# Altium footprint library BMS.Pcb.lib.PcbLib: 38 footprints (part 1 of 3)
Each footprint in its own frame and in the unit in brackets; x right, y up, seen from the top. Pads: shape width x height; smd on the part's side, far side on the other; paste and mask are expansions set on the pad; w line width, h text height; cw(c..) or ccw(c..) is an arc to the next point about the centre after c.
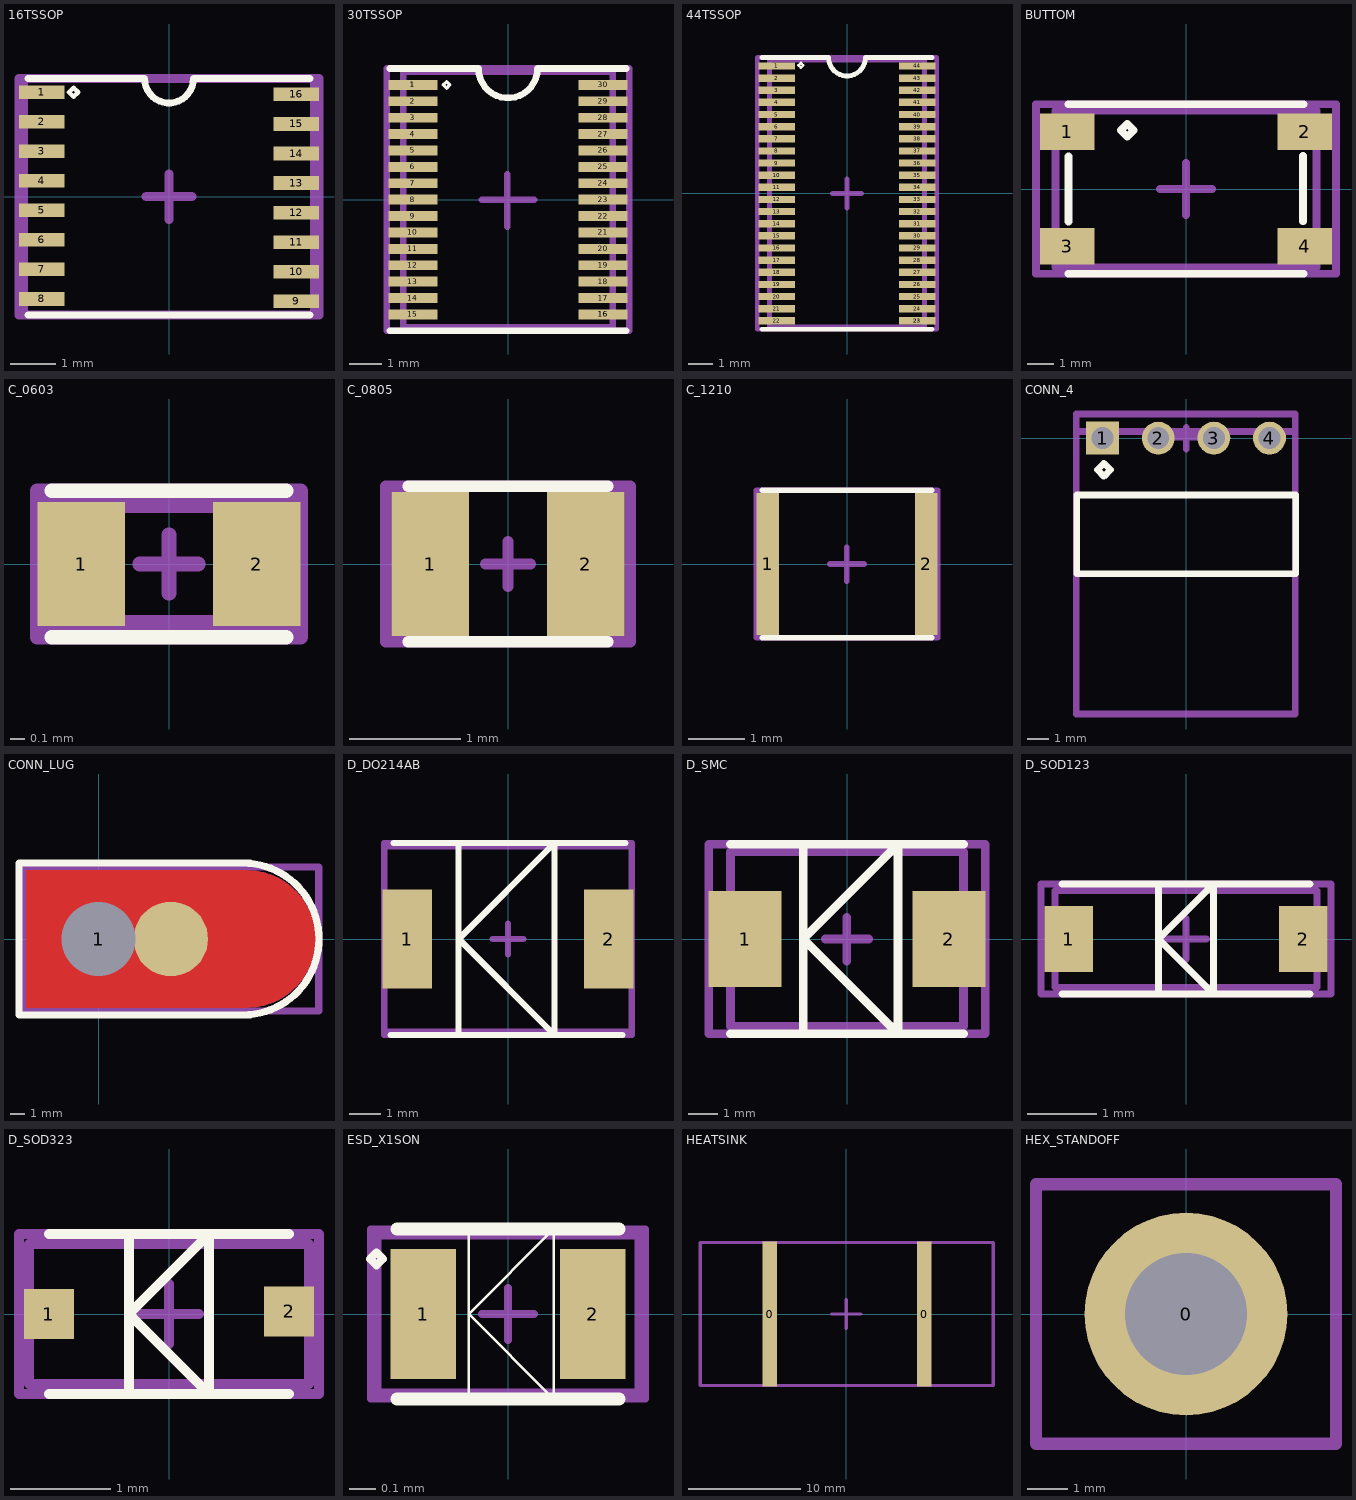
[diagram p0: the footprints below, top view; thin cyan lines are the x and y axes]

## 16TSSOP [mm]
pads (16):
  rect 1x0.3 smd mask+0.005: 1(-2.8,2.3) 2(-2.8,1.65) 3(-2.8,1) 4(-2.8,0.35) 5(-2.8,-0.3) 6(-2.8,-0.95) 7(-2.8,-1.6) 8(-2.8,-2.25) 9(2.8,-2.3) 10(2.8,-1.65) 11(2.8,-1) 12(2.8,-0.35) 13(2.8,0.3) 14(2.8,0.95) 15(2.8,1.6) 16(2.8,2.25)
Top Overlay:
  lines w0.1: -2.2,2.3 -2.1,2.2 -2,2.3 -2.1,2.4 -2.2,2.3
  lines w0.15: -3.1,-2.6 3.1,-2.6 ; -3.1,2.6 -0.539,2.6 ccw(c0,2.6) 0.539,2.6 3.1,2.6
Top Designator:
  lines w0.2: -3.3,-2.6 -3.3,2.6 3.3,2.6 3.3,-2.6 -3.3,-2.6
  text ".Designator" at -3.646,3.487 h1
Top Component Center:
  lines w0.2: -0.5,0 0.5,0 ; 0,-0.5 0,0.5 ; -3.3,-2.6 -3.3,2.6 3.3,2.6 3.3,-2.6 -3.3,-2.6
Top 3D Body:
  lines w0.2: -3.2,-2.6 3.2,-2.6 3.2,2.6 -3.2,2.6 -3.2,-2.6
3D body "16TSSOP.stp": height 1.13, standoff 0, extent -3.183,-2.501 3.217,2.499

## 30TSSOP [mm]
pads (32):
  rect 1.5x0.3 smd mask+0.005: 1(-2.9,3.5) 1(-2.9,3.5) 2(-2.9,3) 3(-2.9,2.5) 4(-2.9,2) 5(-2.9,1.5) 6(-2.9,1) 7(-2.9,0.5) 8(-2.9,0) 9(-2.9,-0.5) 10(-2.9,-1) 11(-2.9,-1.5) 12(-2.9,-2) 13(-2.9,-2.5) 14(-2.9,-3) 15(-2.9,-3.5) 16(2.9,-3.5) 16(2.9,-3.5) 17(2.9,-3) 18(2.9,-2.5) 19(2.9,-2) 20(2.9,-1.5) 21(2.9,-1) 22(2.9,-0.5) 23(2.9,0) 24(2.9,0.5) 25(2.9,1) 26(2.9,1.5) 27(2.9,2) 28(2.9,2.5) 29(2.9,3) 30(2.9,3.5)
Top Overlay:
  lines w0.1: -1.975,3.5 -1.875,3.4 -1.775,3.5 -1.875,3.6 -1.975,3.5
  lines w0.2: -3.6,-4 3.6,-4 ; -3.6,4 -0.9,4 ccw(c0,4) 0.9,4 3.6,4
Top Designator:
  lines w0.2: -3.7,-4 -3.7,4 3.7,4 3.7,-4 -3.7,-4
  text ".Designator" at -4.346,4.987 h1
Top Component Center:
  lines w0.2: -0.8,0 0.8,0 ; -0.028,-0.82 -0.028,0.78 ; -3.7,-4 -3.7,4 3.7,4 3.7,-4 -3.7,-4
Top 3D Body:
  lines w0.2: -3.2,-3.9 -3.2,3.9 3.2,3.9 3.2,-3.9 -3.2,-3.9
3D body "30TSSOP.step": height 1.2, standoff 0, extent -3.2,-3.9 3.2,3.9

## 44TSSOP [mm]
pads (45):
  rect 1.5x0.3 smd mask+0.005: 1(-2.9,5.25) 2(-2.9,4.75) 3(-2.9,4.25) 4(-2.9,3.75) 5(-2.9,3.25) 6(-2.9,2.75) 7(-2.9,2.25) 8(-2.9,1.75) 9(-2.9,1.25) 10(-2.9,0.75) 11(-2.9,0.25) 12(-2.9,-0.25) 13(-2.9,-0.75) 14(-2.9,-1.25) 15(-2.9,-1.75) 16(-2.9,-2.25) 17(-2.9,-2.75) 18(-2.9,-3.25) 19(-2.9,-3.75) 20(-2.9,-4.25) 21(-2.9,-4.75) 22(-2.9,-5.25) 23(2.9,-5.25) 23(2.9,-5.25) 24(2.9,-4.75) 25(2.9,-4.25) 26(2.9,-3.75) 27(2.9,-3.25) 28(2.9,-2.75) 29(2.9,-2.25) 30(2.9,-1.75) 31(2.9,-1.25) 32(2.9,-0.75) 33(2.9,-0.25) 34(2.9,0.25) 35(2.9,0.75) 36(2.9,1.25) 37(2.9,1.75) 38(2.9,2.25) 39(2.9,2.75) 40(2.9,3.25) 41(2.9,3.75) 42(2.9,4.25) 43(2.9,4.75) 44(2.9,5.25)
Top Overlay:
  lines w0.1: -2,5.275 -1.9,5.375 -1.8,5.275 -1.9,5.175 -2,5.275
  lines w0.2: -3.5,-5.6 3.5,-5.6 ; -3.5,5.6 -0.762,5.6 ccw(c0,5.6) 0.762,5.6 3.5,5.6
Top Designator:
  lines w0.2: -3.7,-5.6 3.7,-5.6 3.7,5.6 -3.7,5.6 -3.7,-5.6
  text ".Designator" at -4.746,6.287 h1
Top Component Center:
  lines w0.2: -0.6,0 0.6,0 ; 0,-0.6 0,0.6 ; -3.7,-5.6 -3.7,5.6 3.7,5.6 3.7,-5.6 -3.7,-5.6
Top 3D Body:
  lines w0.2: -3.2,-5.5 -3.2,5.5 3.2,5.5 3.2,-5.5 -3.2,-5.5
3D body "44TSSOP.stp": height 1.13, standoff 0, extent -3.2,-5.5 3.2,5.5

## BUTTOM [mm]
pads (4):
  rect 2.1x1.4 smd mask+0.005: 1(-4.55,2.2) 2(4.55,2.2) 3(-4.55,-2.2) 4(4.55,-2.2)
Top Overlay:
  lines w0.3: -4.5,-3.25 4.5,-3.25 ; -4.5,-1.25 -4.5,1.25 ; -4.5,3.25 4.5,3.25 ; 4.49,-1.233 4.49,1.267 ; -2.5,2.25 -2.25,2 -2,2.25 -2.25,2.5 -2.5,2.25
Top Designator:
  lines w0.3: -5.75,-3.25 5.75,-3.25 5.75,3.25 -5.75,3.25 -5.75,-3.25
  text ".Designator" at -5.246,4.337 h1
Top Component Center:
  lines w0.3: -1,0 1,0 ; 0,-1 0,1 ; -5,-3 5,-3 5,3 -5,3 -5,-3
Top 3D Body:
  lines w0.3: -5,-3 5,-3 5,3 -5,3 -5,-3
3D body "BUTTOM.stp": height 4.41, standoff 0, extent -5,-3 5,3

## C_0603 [mm]
pads (2):
  rect 0.6x0.85 smd mask+0.005: 1(-0.6,0) 2(0.6,0)
Top Overlay:
  lines w0.1: -0.8,-0.5 0.8,-0.5 ; -0.8,0.5 0.8,0.5
Top Designator:
  lines w0.1: -0.9,-0.5 -0.9,0.5 0.9,0.5 0.9,-0.5 -0.9,-0.5
  text ".Designator" at -1.146,0.787 h1
Top Component Center:
  lines w0.1: -0.2,0 0.2,0 ; 0,-0.2 0,0.2 ; -0.9,-0.4 0.9,-0.4 0.9,0.4 -0.9,0.4 -0.9,-0.4
Top 3D Body:
  lines w0.1: -0.8,-0.4 0.8,-0.4 0.8,0.4 -0.8,0.4 -0.8,-0.4
3D body "C_0603.step": height 0.8, standoff 0, extent -0.8,-0.4 0.8,0.4

## C_0805 [mm]
pads (2):
  rect 0.7x1.3 smd mask+0.005: 1(-0.7,0) 2(0.7,0)
Top Overlay:
  lines w0.1: -0.9,-0.7 0.9,-0.7 ; -0.9,0.7 0.9,0.7
Top Designator:
  lines w0.1: -1.1,-0.7 1.1,-0.7 1.1,0.7 -1.1,0.7 -1.1,-0.7
  text ".Designator" at -2,0.933 h0.4
Top Component Center:
  lines w0.1: -0.2,0 0.2,0 ; 0,-0.2 0,0.2 ; -1.1,-0.7 1.1,-0.7 1.1,0.7 -1.1,0.7 -1.1,-0.7
Top 3D Body:
  lines w0.1: -1.1,-0.7 1.1,-0.7 1.1,0.7 -1.1,0.7 -1.1,-0.7
3D body "C_0805.STEP": height 0.94, standoff 0, extent -1.005,-0.625 1.005,0.625

## C_1210 [mm]
pads (2):
  rect 0.4x2.5 smd mask+0.005: 1(-1.4,0) 2(1.4,0)
Top Overlay:
  lines w0.1: -1.5,-1.3 1.5,-1.3 ; -1.5,1.3 1.5,1.3
Top Designator:
  lines w0.1: -1.6,-1.3 1.6,-1.3 1.6,1.3 -1.6,1.3 -1.6,-1.3
  text ".Designator" at -2.946,1.687 h1
Top Component Center:
  lines w0.1: -0.3,0 0.3,0 ; -0.007,-0.306 -0.007,0.294 ; -1.6,-1.3 1.6,-1.3 1.6,1.3 -1.6,1.3 -1.6,-1.3
Top 3D Body:
  lines w0.1: -1.6,-1.3 1.6,-1.3 1.6,1.3 -1.6,1.3 -1.6,-1.3
3D body "C_1210.step": height 2.2, standoff 0, extent -1.6,-1.25 1.6,1.25

## CONN_4 [mm]
pads (4):
  rect 1.5x1.5 hole 1 mask+0.005: 1(-3.81,0)
  round 1.5 hole 1 mask+0.005: 2(-1.27,0) 3(1.27,0) 4(3.81,0)
Top Overlay:
  lines w0.3: -5,-6.2 -5,-2.6 5,-2.6 5,-6.2 -5,-6.2 ; -4.05,-1.45 -3.75,-1.75 -3.45,-1.45 -3.75,-1.15 -4.05,-1.45
Top Designator:
  lines w0.3: -5.005,-12.6 4.995,-12.6 4.995,1.1 -5.005,1.1 -5.005,-12.6
  text ".Designator" at -5.346,-14.713 h1
Top Component Center:
  lines w0.3: -0.49,0.03 0.51,0.03 ; 0,-0.5 0,0.5 ; -5.005,-12.6 -5.005,1.1 4.995,1.1 4.995,-12.6 -5.005,-12.6
Top 3D Body:
  lines w0.3: -5.005,-12.6 4.995,-12.6 4.995,0.3 -5.005,0.3 -5.005,-12.6
3D body "CONN_4.stp": height 7.17, standoff -2.76, extent -5.005,-12.629 5.003,0.3

## CONN_LUG [mm]
pads (1):
  round 5.15 hole 5.125 copper offset 5,0 mask+0.005: 1(0,0)
Top Layer:
  region: 10.25,-4.75 -5,-4.75 -5,4.75 10.25,4.75 10.383,4.75 10.649,4.735 10.914,4.705 11.177,4.661 11.437,4.601 11.693,4.527 11.945,4.439 12.191,4.337 12.431,4.222 12.664,4.093 12.89,3.951 13.107,3.797 13.316,3.631 13.515,3.453 13.703,3.265 13.881,3.066 14.047,2.857 14.201,2.64 14.343,2.414 14.472,2.181 14.587,1.941 14.689,1.695 14.777,1.443 14.851,1.187 14.911,0.927 14.955,0.664 14.985,0.399 15,0.133 15,0 15,-0.133 14.985,-0.399 14.955,-0.664 14.911,-0.927 14.851,-1.187 14.777,-1.443 14.689,-1.695 14.587,-1.941 14.472,-2.181 14.343,-2.414 14.201,-2.64 14.047,-2.857 13.881,-3.066 13.703,-3.265 13.515,-3.453 13.316,-3.631 13.107,-3.797 12.89,-3.951 12.664,-4.093 12.431,-4.222 12.191,-4.337 11.945,-4.439 11.693,-4.527 11.437,-4.601 11.177,-4.661 10.914,-4.705 10.649,-4.735 10.383,-4.75
Bottom Layer:
  region: 10.25,-4.75 -5,-4.75 -5,4.75 10.25,4.75 10.383,4.75 10.649,4.735 10.914,4.705 11.177,4.661 11.437,4.601 11.693,4.527 11.945,4.439 12.191,4.337 12.431,4.222 12.664,4.093 12.89,3.951 13.107,3.797 13.316,3.631 13.515,3.453 13.703,3.265 13.881,3.066 14.047,2.857 14.201,2.64 14.343,2.414 14.472,2.181 14.587,1.941 14.689,1.695 14.777,1.443 14.851,1.187 14.911,0.927 14.955,0.664 14.985,0.399 15,0.133 15,0 15,-0.133 14.985,-0.399 14.955,-0.664 14.911,-0.927 14.851,-1.187 14.777,-1.443 14.689,-1.695 14.587,-1.941 14.472,-2.181 14.343,-2.414 14.201,-2.64 14.047,-2.857 13.881,-3.066 13.703,-3.265 13.515,-3.453 13.316,-3.631 13.107,-3.797 12.89,-3.951 12.664,-4.093 12.431,-4.222 12.191,-4.337 11.945,-4.439 11.693,-4.527 11.437,-4.601 11.177,-4.661 10.914,-4.705 10.649,-4.735 10.383,-4.75
Top Overlay:
  lines w0.5: 10,-5.25 ccw(c10,0) 10,5.25 ; 10.5,-5.25 -5.5,-5.25 -5.5,5.25 10.5,5.25
Top Designator:
  lines w0.5: -5.25,-4.975 -5.25,4.975 15.225,4.975 15.225,-4.975 -5.25,-4.975
  text ".Designator" at -0.496,6.337 h1
Top Component Center:
  lines w0.5: -2,0 2,0 ; 0,-2 0,2 ; -5.25,-4.975 -5.25,4.975 15.225,4.975 15.225,-4.975 -5.25,-4.975
Top 3D Body:
  lines w0.5: -5.25,-4.975 15.225,-4.975 15.225,4.975 -5.25,4.975 -5.25,-4.975
3D body: height 2, standoff 0, extent -5,-4.75 15,4.75
3D body: height 2.01, standoff -0.01, extent -2.54,-2.54 2.54,2.54
3D body: height 13, standoff 0, extent 5.55,-4.75 15.05,4.75
3D body: height 13.05, standoff 0, extent 6.8,-3.5 13.8,3.5

## D_DO214AB [mm]
pads (2):
  rect 1.6x3.2 smd mask+0.005: 1(-3.25,0) 2(3.25,0)
Top Overlay:
  lines w0.2: -3.8,-3.1 3.7,-3.1 ; -3.7,3.1 3.8,3.1 ; -1.6,-3.1 -1.6,3.1 ; -1.6,0 1.5,3.1 1.5,-3.1 -1.6,0
Top Designator:
  lines w0.2: -4,-3.1 4,-3.1 4,3.1 -4,3.1 -4,-3.1
  text ".Designator" at -4.846,3.987 h1
Top Component Center:
  lines w0.2: -0.5,0 0.5,0 ; 0,-0.5 0,0.5 ; -4,-3.1 4,-3.1 4,3.1 -4,3.1 -4,-3.1
Top 3D Body:
  lines w0.2: -4,-3 4,-3 4,3 -4,3 -4,-3
3D body "D_DO214AB.STEP": height 2.65, standoff 0, extent -3.975,-2.95 3.975,2.95

## D_SMC [mm]
pads (2):
  rect 2.5x3.3 smd mask+0.005: 1(-3.5,0) 2(3.5,0)
Top Overlay:
  lines w0.3: -4,-3.25 4,-3.25 ; -4,3.25 4,3.25 ; -1.5,-3.25 -1.5,3.25 ; -1.5,0 1.75,3.25 1.75,-3.25 -1.5,0
Top Designator:
  lines w0.3: -4.75,-3.25 -4.75,3.25 4.75,3.25 4.75,-3.25 -4.75,-3.25
  text ".Designator" at -4.846,3.987 h1
Top Component Center:
  lines w0.3: -0.75,0 0.75,0 ; -0.006,-0.764 -0.006,0.736 ; -4.75,-3.25 -4.75,3.25 4.75,3.25 4.75,-3.25 -4.75,-3.25
Top 3D Body:
  lines w0.3: -4,-3 -4,3 4,3 4,-3 -4,-3
3D body "D_SMC.step": height 2.62, standoff 0, extent -3.97,-2.953 3.97,2.953

## D_SOD123 [mm]
pads (2):
  rect 0.7x0.95 smd mask+0.005: 1(-1.7,0) 2(1.7,0)
Top Overlay:
  lines w0.1: -1.8,-0.8 1.8,-0.8 ; -1.8,0.8 1.8,0.8 ; -0.4,-0.8 -0.4,0.8 ; -0.4,0 0.4,-0.8 0.4,0.8 -0.4,0
Top Designator:
  lines w0.1: -2.1,-0.8 2.1,-0.8 2.1,0.8 -2.1,0.8 -2.1,-0.8
  text ".Designator" at -3.446,1.287 h1
Top Component Center:
  lines w0.1: -0.3,0 0.3,0 ; 0,-0.3 0,0.3 ; -2.1,-0.8 -2.1,0.8 2.1,0.8 2.1,-0.8 -2.1,-0.8
Top 3D Body:
  lines w0.1: -1.9,-0.7 1.9,-0.7 1.9,0.7 -1.9,0.7 -1.9,-0.7
3D body "D_SOD123.step": height 0.81, standoff 0, extent -1.925,-0.675 1.925,0.675

## D_SOD323 [mm]
pads (2):
  rect 0.5x0.5 smd mask+0.005: 1(-1.2,0) 2(1.2,0.025)
Top Overlay:
  lines w0.1: -1.2,-0.8 1.2,-0.8 ; -1.2,0.8 1.2,0.8 ; -0.4,-0.8 -0.4,0.8 ; -0.4,0 0.4,0.8 0.4,-0.8 -0.4,0
Top Designator:
  lines w0.1: -1.5,-0.8 -1.5,0.8 1.5,0.8 1.5,-0.8 -1.5,-0.8
  text ".Designator" at -3.246,1.087 h1
Top Component Center:
  lines w0.1: -0.3,0 0.3,0 ; 0,-0.3 0,0.3 ; -1.5,-0.8 1.5,-0.8 1.5,0.8 -1.5,0.8 -1.5,-0.8
Top 3D Body:
  lines w0.1: -1.4,-0.7 -1.4,0.7 1.4,0.7 1.4,-0.7 -1.4,-0.7
3D body "D_SOD323.step": height 1.2, standoff 0, extent -1.346,-0.698 1.346,0.698

## ESD_X1SON [mm]
pads (2):
  rect 0.25x0.5 smd mask+0.005: 1(-0.325,0) 2(0.325,0)
Top Overlay:
  lines w0.01: -0.15,-0.325 -0.15,0.325 ; -0.15,0 0.175,-0.325 0.175,0.325 -0.15,0
  lines w0.03: -0.529,0.211 -0.504,0.186 -0.479,0.211 -0.504,0.236 -0.529,0.211
  lines w0.05: -0.425,-0.325 0.425,-0.325 ; -0.425,0.325 0.425,0.325
Top Designator:
  lines w0.03: -0.525,-0.325 0.525,-0.325 0.525,0.325 -0.525,0.325 -0.525,-0.325
  text ".Designator" at -0.946,0.687 h1
Top Component Center:
  lines w0.03: -0.1,0 0.1,0 ; 0,-0.1 0,0.1 ; -0.525,-0.325 0.525,-0.325 0.525,0.325 -0.525,0.325 -0.525,-0.325
Top 3D Body:
  lines w0.03: -0.5,-0.3 0.5,-0.3 0.5,0.3 -0.5,0.3 -0.5,-0.3
3D body "ESD_1XSON.step": height 0.45, standoff 0, extent -0.5,-0.3 0.5,0.3

## HEATSINK [mm]
pads (2):
  rect 1.3x13 smd mask+0.005: 0(-6.85,0) 0(7,0)
Top Designator:
  lines w0.3: -13.05,-6.4 -13.05,6.4 13.15,6.4 13.15,-6.4 -13.05,-6.4
  text ".Designator" at -12.796,6.987 h1
Top Component Center:
  lines w0.3: -1.3,0 1.3,0 ; 0,-1.3 0,1.3 ; -13.05,-6.4 13.15,-6.4 13.15,6.4 -13.05,6.4 -13.05,-6.4
Top 3D Body:
  lines w0.3: -13.05,-6.4 -13.05,6.4 13.15,6.4 13.15,-6.4 -13.05,-6.4
3D body "HEATSTINK.STEP": height 10.15, standoff -0.01, extent -13.03,-6.35 13.13,6.35

## HEX_STANDOFF [mm]
pads (1):
  round 5 hole 3 mask+0.005: 0(0,0)
Top Designator:
  lines w0.3: -3.7,-3.2 -3.7,3.2 3.7,3.2 3.7,-3.2 -3.7,-3.2
  text ".Designator" at -4.646,3.887 h1
Top Component Center:
  lines w0.3: -0.8,0 0.8,0 ; 0,-0.8 0,0.8 ; -3.7,-3.2 -3.7,3.2 3.7,3.2 3.7,-3.2 -3.7,-3.2
Top 3D Body:
  lines w0.3: -3.7,-3.2 -3.7,3.2 3.7,3.2 3.7,-3.2 -3.7,-3.2
3D body "HEX_STANDOFF.STEP": height -0.4, standoff -13.1, extent -3.666,-3.175 3.666,3.175